# Altium schematic symbol library STTH112U.SchLib: 1 symbol
Pins are listed as number, name and electrical type; pins without a type are passive.

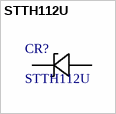
[diagram p0: symbol STTH112U]

## STTH112U
designator CR?
1200 V, 1A Ultrafast Diode; Manufacturer_Name: STMicroelectronics; Copyright: Copyright (C) 2025 Ultra Librarian. All rights reserved.; Manufacturer_Part_Number: STTH112U
footprint SMB_STM
pins: 1 K, 2 A